# EAGLE library part PCF8584 (library micro-philips)
I2C-Bus CONTROLLER
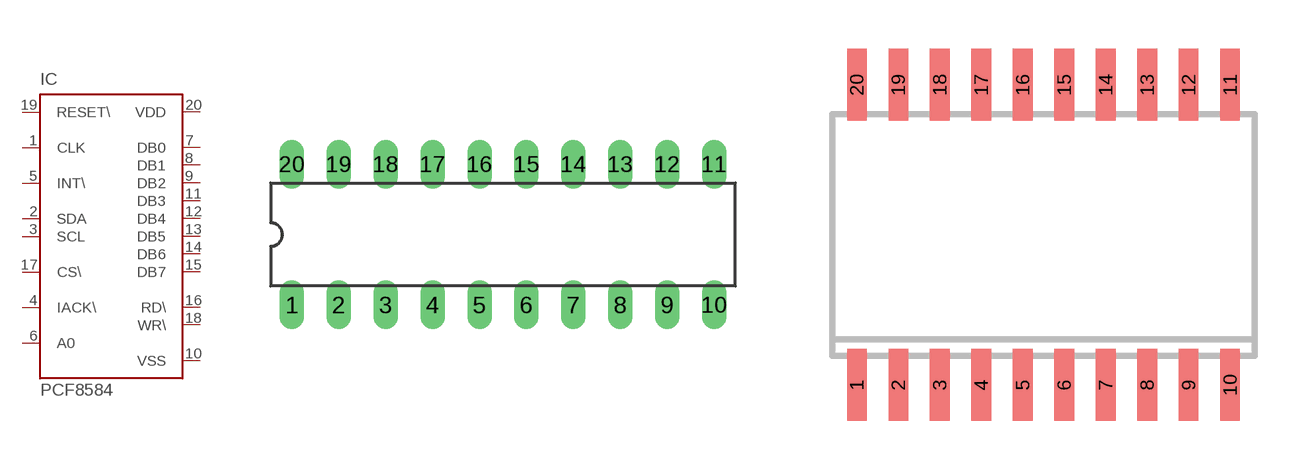
[diagram p12: symbol with the pads of DIL20; footprints DIL20, SO20W]

Designator prefix IC

## PCF8584P  [DIL20]
1  CLK  in
2  SDA
3  SCL  in
4  IACK\  in
5  INT\  out
6  A0  in
7  DB0
8  DB1
9  DB2
10  VSS  pwr
11  DB3
12  DB4
13  DB5
14  DB6
15  DB7
16  RD\  in
17  CS\  in
18  WR\  in
19  RESET\  in
20  VDD  pwr

## PCF8584T  [SO20W]
Pads as for DIL20

## Footprint DIL20 (pad centres in mm)
Dual In Line
drill 0.813 long: 1 -11.43,-3.81; 2 -8.89,-3.81; 3 -6.35,-3.81; 4 -3.81,-3.81; 5 -1.27,-3.81; 6 1.27,-3.81; 7 3.81,-3.81; 8 6.35,-3.81; 9 8.89,-3.81; 10 11.43,-3.81; 11 11.43,3.81; 12 8.89,3.81; 13 6.35,3.81; 14 3.81,3.81; 15 1.27,3.81; 16 -1.27,3.81; 17 -3.81,3.81; 18 -6.35,3.81; 19 -8.89,3.81; 20 -11.43,3.81

## Footprint SO20W (pad centres in mm)
Small Outline Package 7.6 x 13.2 mm
smd 0.6 x 2.2: 1 -5.715,-4.6; 2 -4.445,-4.6; 3 -3.175,-4.6; 4 -1.905,-4.6; 5 -0.635,-4.6; 6 0.635,-4.6; 7 1.905,-4.6; 8 3.175,-4.6; 9 4.445,-4.6; 10 5.715,-4.6; 11 5.715,4.6; 12 4.445,4.6; 13 3.175,4.6; 14 1.905,4.6; 15 0.635,4.6; 16 -0.635,4.6; 17 -1.905,4.6; 18 -3.175,4.6; 19 -4.445,4.6; 20 -5.715,4.6